# Altium footprint library WE-LF SMD.PcbLib: 1 footprints
Each footprint in its own frame and in the unit in brackets; x right, y up, seen from the top. Pads: shape width x height; smd on the part's side, far side on the other; paste and mask are expansions set on the pad; w line width, h text height; cw(c..) or ccw(c..) is an arc to the next point about the centre after c.
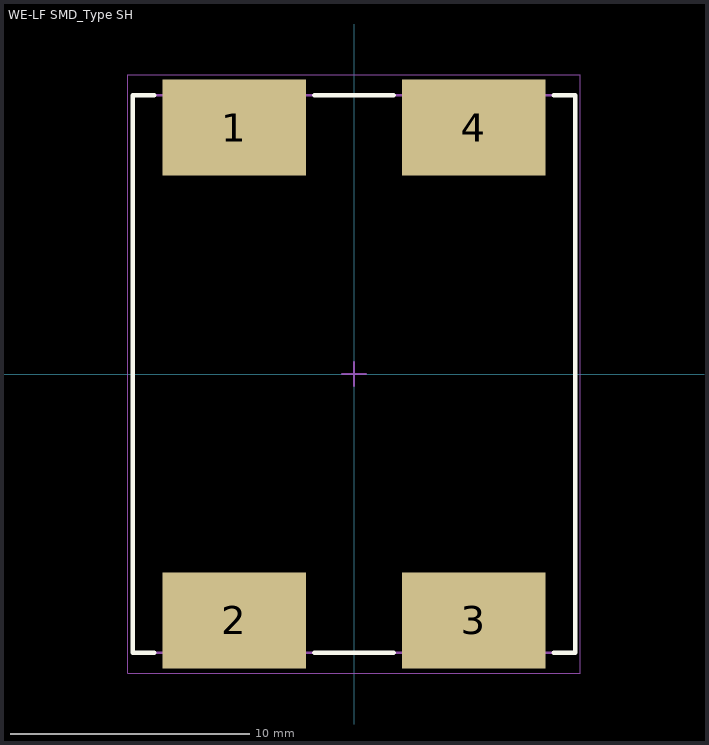
[diagram p0: the footprint, top view; thin cyan lines are the x and y axes]

## WE-LF SMD_Type SH [mm] "SMD Common Mode Power Line Choke, 4 leads"
height 11.5
pads (4):
  rect 6x4 smd: 1(-5,10.3) 2(-5,-10.3) 3(5,-10.3) 4(5,10.3)
Top Overlay:
  lines w0.2: -8.35,-11.65 -9.25,-11.65 -9.25,11.65 -8.35,11.65 ; -1.65,-11.65 1.65,-11.65 ; -1.65,11.65 1.65,11.65 ; 8.35,-11.65 9.25,-11.65 9.25,11.65 8.35,11.65
Top Assembly:
  lines w0.1: -9.25,-11.65 9.25,-11.65 9.25,11.65 -9.25,11.65 -9.25,-11.65
Top Designator:
  text ".Designator" at -3.647,-0.357 h1
Top 3D Body:
  lines w0.1: -9.25,-11.65 9.25,-11.65 9.25,11.65 -9.25,11.65 -9.25,-11.65
Top Courtyard:
  lines w0.05: -9.45,-12.5 -9.45,12.5 9.45,12.5 9.45,-12.5 -9.45,-12.5
Top Component Center:
  lines w0.1: -0.5,0 0.5,0 ; 0,-0.5 0,0.5
3D body "744663xxx_SH.stp": height 11.05, standoff 0, extent -9,-12.275 9,12.275